# Altium footprint library DT15-4P.PcbLib: 2 footprints
Each footprint in its own frame and in the unit in brackets; x right, y up, seen from the top. Pads: shape width x height; smd on the part's side, far side on the other; paste and mask are expansions set on the pad; w line width, h text height; cw(c..) or ccw(c..) is an arc to the next point about the centre after c.
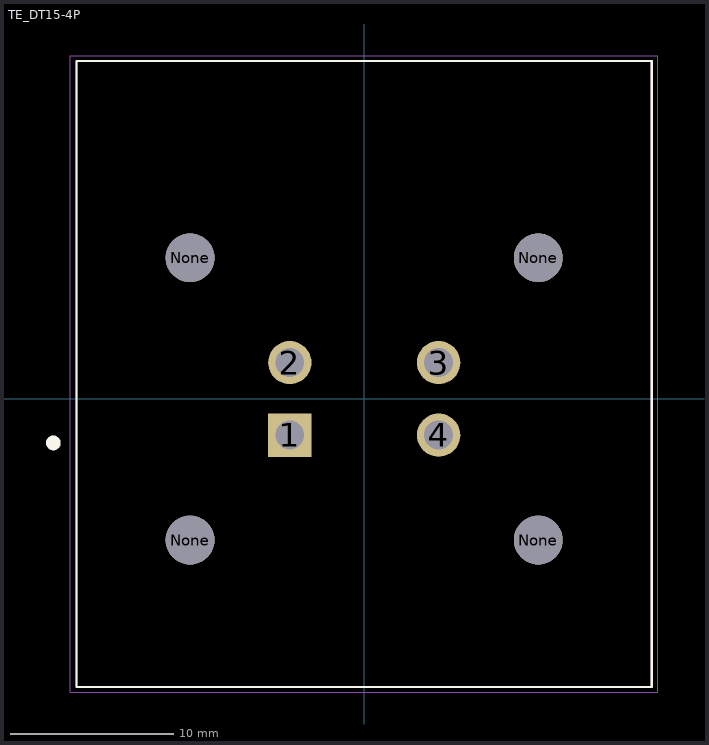
[diagram p0: the footprints below, top view; thin cyan lines are the x and y axes]

## PCBComponent_1 [mm]

## TE_DT15-4P [mm]
pads (8):
  rect 2.655x2.655 hole 1.77: 1(-4.56,-2.225)
  round 2.655 hole 1.77: 2(-4.56,2.225) 3(4.56,2.225) 4(4.56,-2.225)
  round 2.99 hole 2.99 unplated: None(-10.67,-8.655) None(-10.67,8.645) None(10.67,-8.655) None(10.67,8.645)
Top Overlay:
  circle w0.5: c-19.05,-2.7 r0.2
  lines w0.127: -17.625,-17.651 -17.625,20.699 17.625,20.699 17.625,-17.651 -17.625,-17.651
Mechanical 13:
  lines w0.127: -17.625,-17.651 -17.625,20.699 ; -17.625,-17.651 17.625,-17.651 ; -17.625,-17.651 -17.625,20.699 ; -17.625,-17.651 17.625,-17.651 ; -17.625,20.699 17.625,20.699 ; -17.625,20.699 17.625,20.699 ; 17.625,-17.651 17.625,20.699 ; 17.625,-17.651 17.625,20.699
Mechanical 15:
  lines w0.05: -18,-17.976 18,-17.976 18,21.024 -18,21.024 -18,-17.976
3D body "c-dt15-4p-99-3d.stp": height 30.48, standoff -2.97, extent -17.628,-17.653 17.628,20.701